# Altium schematic symbol library RT9043GB.SchLib: 1 symbol
Pins are listed as number, name and electrical type; pins without a type are passive.

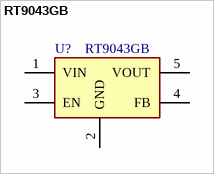
[diagram p0: symbol RT9043GB]

## RT9043GB
designator U?
LDO Voltage Regulators High PSRR, Low Dropout, 400mA Adjustable LDO Regulator; Manufacturer_Name: RICHTEK; Geometry.Height: 1.295mm; Mouser Part Number: 835-RT9043GB; Mouser Price/Stock: https://www.mouser.co.uk/ProductDetail/Richtek/RT9043GB?qs=amGC7iS6iy9PfV5OBggxlg%3D%3D; Manufacturer_Part_Number: RT9043GB; Datasheet Link: https://componentsearchengine.com/Datasheets/2/RT9043GB.pdf
footprint SOT94P279X130-5N
pins: 1 VIN, 2 GND, 3 EN, 4 FB, 5 VOUT